# Altium integrated library TI Amplifiers and Linear PGA-VGA.IntLib: 149 symbols (part 1 of 8)
Pins are listed as number, name and electrical type; pins without a type are passive.

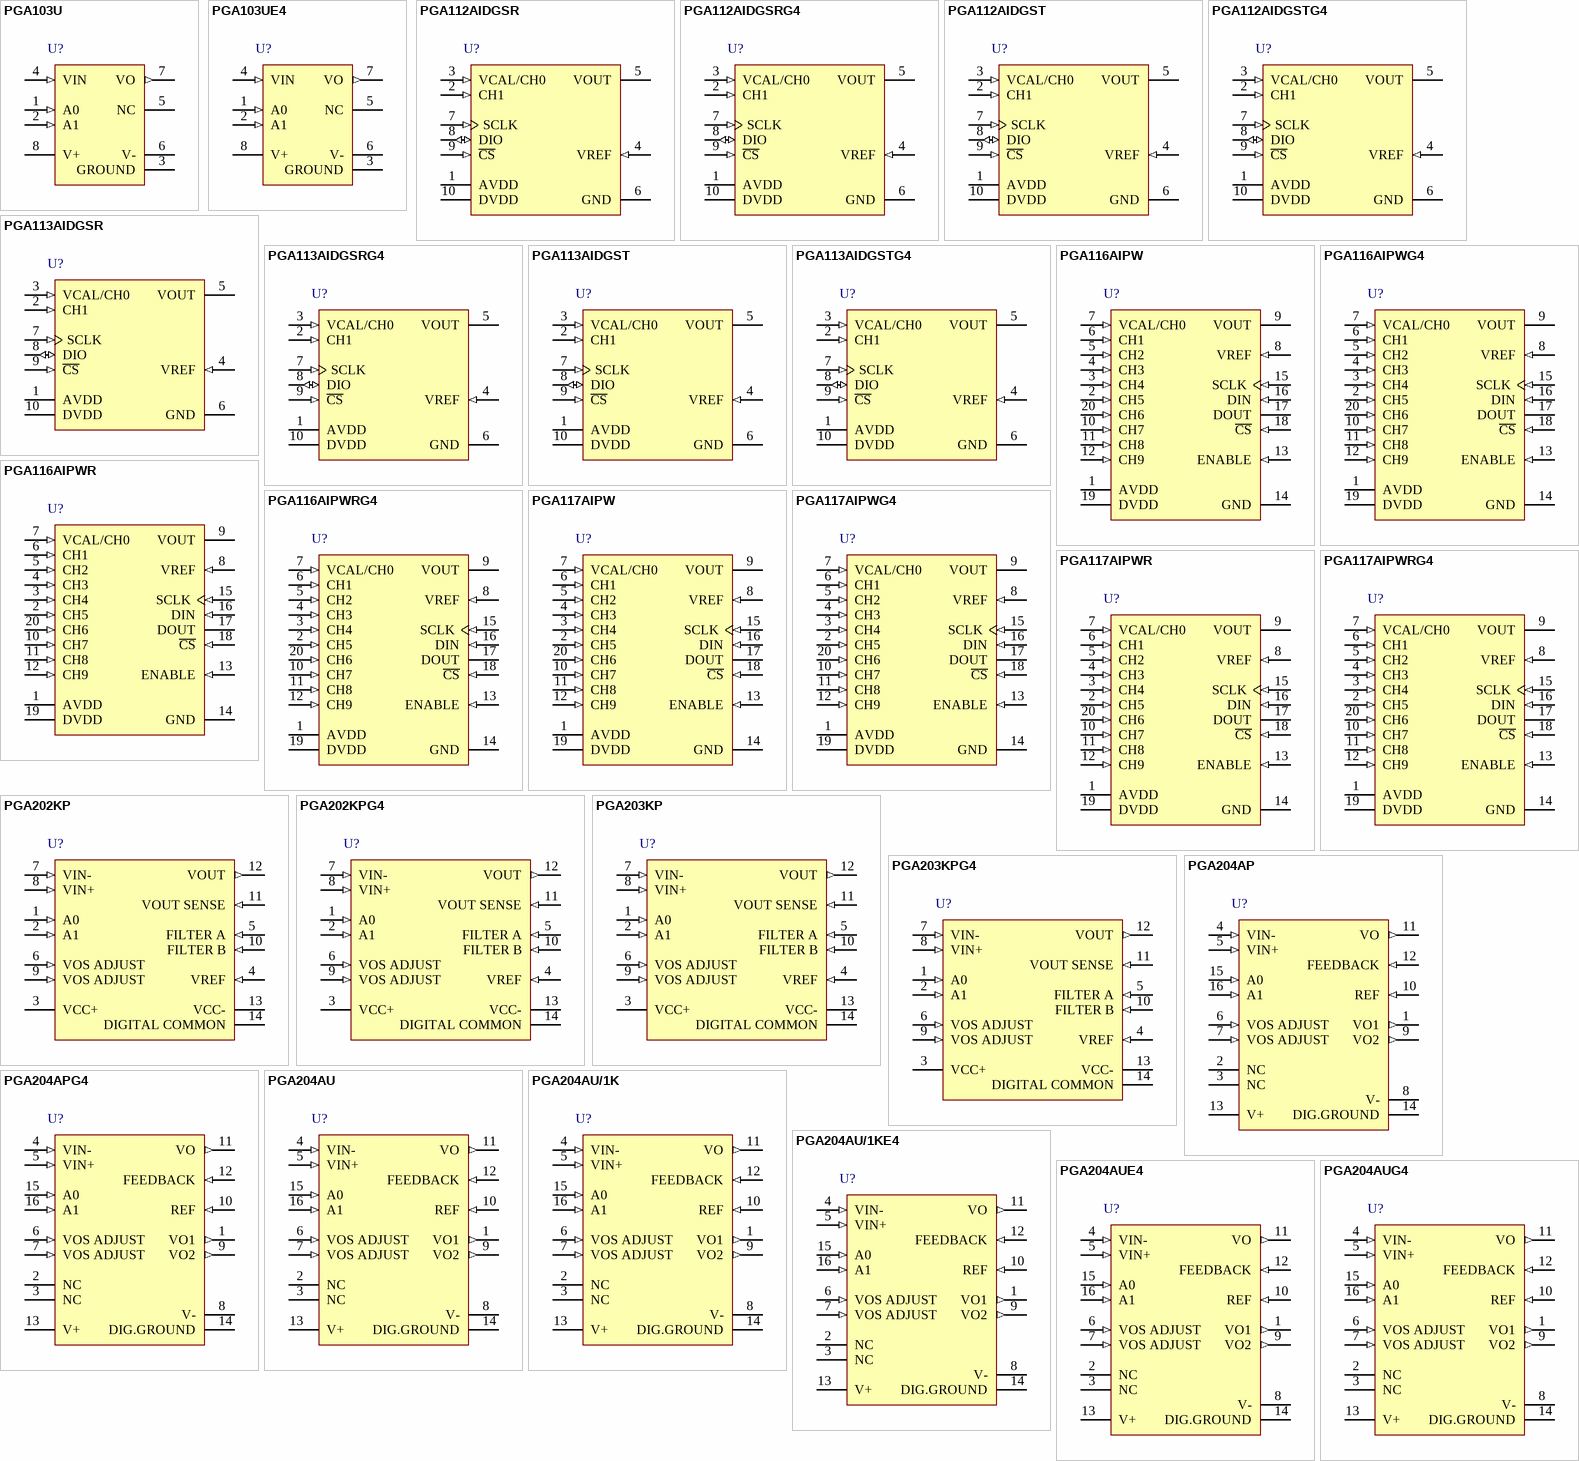
[diagram p0: symbols PGA103U to PGA204AUG4]

## PGA103U
designator U?
Programmable Gain Amplifier, -40 to 85 degC, 8-pin SOIC (D8), Green (RoHS & no Sb/Br); Manufacturer: Texas Instruments; PartNumber: PGA103U; Gain Error (+/-)(Max)(%): 0.2; Gain(V/V): 1, 10, 100; Input Bias Current (+/-)(Max)(nA): 150; Input Offset (+/-)(Max)(uV): 500; Noise at 1kHz(Typ)(nV/rt(Hz)): 11; Non-Linearity (+/-)(Max)(%): 0.01; Number of Channels: 1; Quiescent Current (+/-)(Typ)(mA): 2.6; Settling Time to 0.01%(Typ)(us): 8; Vs(Max)(V): 36; Vs(Min)(V): 9; DatasheetVersion: SBOS031; PackageVersion: 4040047-3/M, 06/2011; PackageReference: D8; PackageDescription: 8-Pin Plastic Small Outline, Body 4.9 x 3.9 mm, Pitch 1.27 mm; Supplier 1: Digi-Key; Supplier Part Number 1: PGA103U-ND; Supplier 2: Newark; Supplier Part Number 2: 80K6037; Supplier 3: Mouser; Supplier Part Number 3: 595-PGA103U; Eco-Plan: Green (RoHS & no Sb/Br); SubFamily: Programmable Gain Amplifier; Mounting Technology: Surface Mount; Code_JEDEC: MS-012; ComponentLink1Description: Manufacturer URL; ComponentLink1URL: http://www.ti.com/; ComponentLink2Description: Datasheet; ComponentLink2URL: http://www.ti.com/general/docs/lit/getliterature.tsp?genericPartNumber=PGA103&fileType=pdf; ComponentLink3Description: Package Specification; ComponentLink3URL: http://www.ti.com/litv/pdf/msoi002j
footprint TI-D8_N (SOIC, 8-Leads, Body 5x4mm, Pitch 1.27mm, IPC Medium Density)
footprint TI-D8_L (SOIC, 8-Leads, Body 5x4mm, Pitch 1.27mm, IPC High Density)
footprint TI-D8_M (SOIC, 8-Leads, Body 5x4mm, Pitch 1.27mm, IPC Low Density)
pins: 1 A0 (in), 2 A1 (in), 3 GROUND (power), 4 VIN (in), 5 NC, 6 V- (power), 7 VO (out), 8 V+ (power)

## PGA103UE4
designator U?
Programmable Gain Amplifier, -40 to 85 degC, 8-pin SOIC (D8), Green (RoHS & no Sb/Br); Manufacturer: Texas Instruments; PartNumber: PGA103UE4; Gain Error (+/-)(Max)(%): 0.2; Gain(V/V): 1, 10, 100; Input Bias Current (+/-)(Max)(nA): 150; Input Offset (+/-)(Max)(uV): 500; Noise at 1kHz(Typ)(nV/rt(Hz)): 11; Non-Linearity (+/-)(Max)(%): 0.01; Number of Channels: 1; Quiescent Current (+/-)(Typ)(mA): 2.6; Settling Time to 0.01%(Typ)(us): 8; Vs(Max)(V): 36; Vs(Min)(V): 9; DatasheetVersion: SBOS031; PackageVersion: 4040047-3/M, 06/2011; PackageReference: D8; PackageDescription: 8-Pin Plastic Small Outline, Body 4.9 x 3.9 mm, Pitch 1.27 mm; Supplier 1: Digi-Key; Supplier Part Number 1: PGA103UE4-ND; Supplier 2: Newark; Supplier Part Number 2: 28M6721; Supplier 3: Mouser; Supplier Part Number 3: 595-PGA103UE4; Eco-Plan: Green (RoHS & no Sb/Br); SubFamily: Programmable Gain Amplifier; Mounting Technology: Surface Mount; Code_JEDEC: MS-012; ComponentLink1Description: Manufacturer URL; ComponentLink1URL: http://www.ti.com/; ComponentLink2Description: Datasheet; ComponentLink2URL: http://www.ti.com/general/docs/lit/getliterature.tsp?genericPartNumber=PGA103&fileType=pdf; ComponentLink3Description: Package Specification; ComponentLink3URL: http://www.ti.com/litv/pdf/msoi002j
footprint TI-D8_N (SOIC, 8-Leads, Body 5x4mm, Pitch 1.27mm, IPC Medium Density)
footprint TI-D8_L (SOIC, 8-Leads, Body 5x4mm, Pitch 1.27mm, IPC High Density)
footprint TI-D8_M (SOIC, 8-Leads, Body 5x4mm, Pitch 1.27mm, IPC Low Density)
pins: 1 A0 (in), 2 A1 (in), 3 GROUND (power), 4 VIN (in), 5 NC, 6 V- (power), 7 VO (out), 8 V+ (power)

## PGA112AIDGSR
designator U?
Zero-Drift, Programmable Gain Amplifier with MUX, -40 to 125 degC, 10-pin SOP (DGS10), Green (RoHS & no Sb/Br); Manufacturer: Texas Instruments; PartNumber: PGA112AIDGSR; Gain Error (+/-)(Max)(%): 0.1; Gain(V/V): 1, 2, 4, 8, 16, 32, 64, 128; Input Bias Current (+/-)(Max)(nA): 5; Input Offset (+/-)(Max)(uV): 100; Input Offset Drift (+/-)(Max)(uV/Degrees Celsius): 1.2; Non-Linearity (+/-)(Max)(%): 0.0015; Number of Channels: 2; Quiescent Current (+/-)(Typ)(mA): 1.1; Settling Time to 0.01%(Typ)(us): 2.55; Slew Rate(Typ)(V/us): 3; Vs(Max)(V): 5.5; Vs(Min)(V): 2.2; DatasheetVersion: SBOS424B; PackageVersion: 4073272/C, 02/2004; PackageReference: DGS10; PackageDescription: 10-Pin Plastic Small Outline, Body 3 x 3 mm, Pitch 0.5 mm; Supplier 1: Digi-Key; Supplier Part Number 1: PGA112AIDGSR-ND; Supplier 2: Mouser; Supplier Part Number 2: 595-PGA112AIDGSR; Eco-Plan: Green (RoHS & no Sb/Br); SubFamily: Programmable Gain Amplifier; Mounting Technology: Surface Mount; Code_JEDEC: MO-153; ComponentLink1Description: Manufacturer URL; ComponentLink1URL: http://www.ti.com/; ComponentLink2Description: Datasheet; ComponentLink2URL: http://www.ti.com/general/docs/lit/getliterature.tsp?genericPartNumber=PGA112&fileType=pdf; ComponentLink3Description: Package Specification; ComponentLink3URL: http://www.ti.com/lit/ml/mpds035b/mpds035b.pdf
footprint TI-DGS10_N (SOP, 10-Leads, Body 3.1x3.1mm, Pitch 0.5mm, IPC Medium Density)
footprint TI-DGS10_L (SOP, 10-Leads, Body 3.1x3.1mm, Pitch 0.5mm, IPC High Density)
footprint TI-DGS10_M (SOP, 10-Leads, Body 3.1x3.1mm, Pitch 0.5mm, IPC Low Density)
pins: 1 AVDD (power) "Analog supply voltage (+2.2V to +5.5V)", 2 CH1 (in) "Input MUX channel 1", 3 VCAL/CH0 (in) "Input MUX channel 0 and VCAL input. For system calibration purposes, connect this pin to a low-impedance external reference voltage to use internal calibration channels. The four internal  calibration channels are connected (See Datasheet)", 4 VREF (in) "Reference input pin. Connect external reference for VOUT offset shift or to midsupply for midsupply referenced systems. VREF must be connected to a low-impedance reference capable of sourcing and sinking at least 2mA or VREF (See Datasheet)", 5 VOUT (hiz) "Analog voltage output. When AVDD < DVDD, VOUT is clamped to AVDD + 300mV.", 6 GND (power) "Ground pin", 7 SCLK (in) "Clock input for SPI serial interface", 8 DIO (io) "Data input/output for SPI serial interface. DIO contains a weak, 10uA internal pull-down current source.", 9 ~{CS} (in) "Chip select line for SPI serial interface", 10 DVDD (power) "Digital and op amp output stage supply voltage (+2.2V to +5.5V). Useful in multi-supply systems to prevent overvoltage/lockup condition on an analog-to-digital (ADC) input (for example, a microcontroller with an ADC running (See Datasheet)"

## PGA112AIDGSRG4
designator U?
Zero-Drift, Programmable Gain Amplifier with MUX, -40 to 125 degC, 10-pin SOP (DGS10), Green (RoHS & no Sb/Br); Manufacturer: Texas Instruments; PartNumber: PGA112AIDGSRG4; Gain Error (+/-)(Max)(%): 0.1; Gain(V/V): 1, 2, 4, 8, 16, 32, 64, 128; Input Bias Current (+/-)(Max)(nA): 5; Input Offset (+/-)(Max)(uV): 100; Input Offset Drift (+/-)(Max)(uV/Degrees Celsius): 1.2; Non-Linearity (+/-)(Max)(%): 0.0015; Number of Channels: 2; Quiescent Current (+/-)(Typ)(mA): 1.1; Settling Time to 0.01%(Typ)(us): 2.55; Slew Rate(Typ)(V/us): 3; Vs(Max)(V): 5.5; Vs(Min)(V): 2.2; DatasheetVersion: SBOS424B; PackageVersion: 4073272/C, 02/2004; PackageReference: DGS10; PackageDescription: 10-Pin Plastic Small Outline, Body 3 x 3 mm, Pitch 0.5 mm; Supplier 1: Digi-Key; Supplier Part Number 1: PGA112AIDGSRG4-ND; Supplier 2: Mouser; Supplier Part Number 2: 595-PGA112AIDGSRG4; Eco-Plan: Green (RoHS & no Sb/Br); SubFamily: Programmable Gain Amplifier; Mounting Technology: Surface Mount; Code_JEDEC: MO-153; ComponentLink1Description: Manufacturer URL; ComponentLink1URL: http://www.ti.com/; ComponentLink2Description: Datasheet; ComponentLink2URL: http://www.ti.com/general/docs/lit/getliterature.tsp?genericPartNumber=PGA112&fileType=pdf; ComponentLink3Description: Package Specification; ComponentLink3URL: http://www.ti.com/lit/ml/mpds035b/mpds035b.pdf
footprint TI-DGS10_N (SOP, 10-Leads, Body 3.1x3.1mm, Pitch 0.5mm, IPC Medium Density)
footprint TI-DGS10_L (SOP, 10-Leads, Body 3.1x3.1mm, Pitch 0.5mm, IPC High Density)
footprint TI-DGS10_M (SOP, 10-Leads, Body 3.1x3.1mm, Pitch 0.5mm, IPC Low Density)
pins: 1 AVDD (power) "Analog supply voltage (+2.2V to +5.5V)", 2 CH1 (in) "Input MUX channel 1", 3 VCAL/CH0 (in) "Input MUX channel 0 and VCAL input. For system calibration purposes, connect this pin to a low-impedance external reference voltage to use internal calibration channels. The four internal  calibration channels are connected (See Datasheet)", 4 VREF (in) "Reference input pin. Connect external reference for VOUT offset shift or to midsupply for midsupply referenced systems. VREF must be connected to a low-impedance reference capable of sourcing and sinking at least 2mA or VREF (See Datasheet)", 5 VOUT (hiz) "Analog voltage output. When AVDD < DVDD, VOUT is clamped to AVDD + 300mV.", 6 GND (power) "Ground pin", 7 SCLK (in) "Clock input for SPI serial interface", 8 DIO (io) "Data input/output for SPI serial interface. DIO contains a weak, 10uA internal pull-down current source.", 9 ~{CS} (in) "Chip select line for SPI serial interface", 10 DVDD (power) "Digital and op amp output stage supply voltage (+2.2V to +5.5V). Useful in multi-supply systems to prevent overvoltage/lockup condition on an analog-to-digital (ADC) input (for example, a microcontroller with an ADC running (See Datasheet)"

## PGA112AIDGST
designator U?
Zero-Drift, Programmable Gain Amplifier with MUX, -40 to 125 degC, 10-pin SOP (DGS10), Green (RoHS & no Sb/Br); Manufacturer: Texas Instruments; PartNumber: PGA112AIDGST; Gain Error (+/-)(Max)(%): 0.1; Gain(V/V): 1, 2, 4, 8, 16, 32, 64, 128; Input Bias Current (+/-)(Max)(nA): 5; Input Offset (+/-)(Max)(uV): 100; Input Offset Drift (+/-)(Max)(uV/Degrees Celsius): 1.2; Non-Linearity (+/-)(Max)(%): 0.0015; Number of Channels: 2; Quiescent Current (+/-)(Typ)(mA): 1.1; Settling Time to 0.01%(Typ)(us): 2.55; Slew Rate(Typ)(V/us): 3; Vs(Max)(V): 5.5; Vs(Min)(V): 2.2; DatasheetVersion: SBOS424B; PackageVersion: 4073272/C, 02/2004; PackageReference: DGS10; PackageDescription: 10-Pin Plastic Small Outline, Body 3 x 3 mm, Pitch 0.5 mm; Supplier 1: Digi-Key; Supplier Part Number 1: 296-23315-2-ND; Supplier 2: Digi-Key; Supplier Part Number 2: 296-23315-1-ND; Supplier 3: Digi-Key; Supplier Part Number 3: 296-23315-6-ND; Supplier 4: Farnell; Supplier Part Number 4: 1565875; Supplier 5: Newark; Supplier Part Number 5: 86W6076; Supplier 6: Newark; Supplier Part Number 6: 94M8671; Supplier 7: Mouser; Supplier Part Number 7: 595-PGA112AIDGST; Eco-Plan: Green (RoHS & no Sb/Br); SubFamily: Programmable Gain Amplifier; Mounting Technology: Surface Mount; Code_JEDEC: MO-153; ComponentLink1Description: Manufacturer URL; ComponentLink1URL: http://www.ti.com/; ComponentLink2Description: Datasheet; ComponentLink2URL: http://www.ti.com/general/docs/lit/getliterature.tsp?genericPartNumber=PGA112&fileType=pdf; ComponentLink3Description: Package Specification; ComponentLink3URL: http://www.ti.com/lit/ml/mpds035b/mpds035b.pdf
footprint TI-DGS10_N (SOP, 10-Leads, Body 3.1x3.1mm, Pitch 0.5mm, IPC Medium Density)
footprint TI-DGS10_L (SOP, 10-Leads, Body 3.1x3.1mm, Pitch 0.5mm, IPC High Density)
footprint TI-DGS10_M (SOP, 10-Leads, Body 3.1x3.1mm, Pitch 0.5mm, IPC Low Density)
pins: 1 AVDD (power) "Analog supply voltage (+2.2V to +5.5V)", 2 CH1 (in) "Input MUX channel 1", 3 VCAL/CH0 (in) "Input MUX channel 0 and VCAL input. For system calibration purposes, connect this pin to a low-impedance external reference voltage to use internal calibration channels. The four internal  calibration channels are connected (See Datasheet)", 4 VREF (in) "Reference input pin. Connect external reference for VOUT offset shift or to midsupply for midsupply referenced systems. VREF must be connected to a low-impedance reference capable of sourcing and sinking at least 2mA or VREF (See Datasheet)", 5 VOUT (hiz) "Analog voltage output. When AVDD < DVDD, VOUT is clamped to AVDD + 300mV.", 6 GND (power) "Ground pin", 7 SCLK (in) "Clock input for SPI serial interface", 8 DIO (io) "Data input/output for SPI serial interface. DIO contains a weak, 10uA internal pull-down current source.", 9 ~{CS} (in) "Chip select line for SPI serial interface", 10 DVDD (power) "Digital and op amp output stage supply voltage (+2.2V to +5.5V). Useful in multi-supply systems to prevent overvoltage/lockup condition on an analog-to-digital (ADC) input (for example, a microcontroller with an ADC running (See Datasheet)"

## PGA112AIDGSTG4
designator U?
Zero-Drift, Programmable Gain Amplifier with MUX, -40 to 125 degC, 10-pin SOP (DGS10), Green (RoHS & no Sb/Br); Manufacturer: Texas Instruments; PartNumber: PGA112AIDGSTG4; Gain Error (+/-)(Max)(%): 0.1; Gain(V/V): 1, 2, 4, 8, 16, 32, 64, 128; Input Bias Current (+/-)(Max)(nA): 5; Input Offset (+/-)(Max)(uV): 100; Input Offset Drift (+/-)(Max)(uV/Degrees Celsius): 1.2; Non-Linearity (+/-)(Max)(%): 0.0015; Number of Channels: 2; Quiescent Current (+/-)(Typ)(mA): 1.1; Settling Time to 0.01%(Typ)(us): 2.55; Slew Rate(Typ)(V/us): 3; Vs(Max)(V): 5.5; Vs(Min)(V): 2.2; DatasheetVersion: SBOS424B; PackageVersion: 4073272/C, 02/2004; PackageReference: DGS10; PackageDescription: 10-Pin Plastic Small Outline, Body 3 x 3 mm, Pitch 0.5 mm; Supplier 1: Digi-Key; Supplier Part Number 1: PGA112AIDGSTG4-ND; Supplier 2: Newark; Supplier Part Number 2: 03P4686; Supplier 3: Mouser; Supplier Part Number 3: 595-PGA112AIDGSTG4; Eco-Plan: Green (RoHS & no Sb/Br); SubFamily: Programmable Gain Amplifier; Mounting Technology: Surface Mount; Code_JEDEC: MO-153; ComponentLink1Description: Manufacturer URL; ComponentLink1URL: http://www.ti.com/; ComponentLink2Description: Datasheet; ComponentLink2URL: http://www.ti.com/general/docs/lit/getliterature.tsp?genericPartNumber=PGA112&fileType=pdf; ComponentLink3Description: Package Specification; ComponentLink3URL: http://www.ti.com/lit/ml/mpds035b/mpds035b.pdf
footprint TI-DGS10_N (SOP, 10-Leads, Body 3.1x3.1mm, Pitch 0.5mm, IPC Medium Density)
footprint TI-DGS10_L (SOP, 10-Leads, Body 3.1x3.1mm, Pitch 0.5mm, IPC High Density)
footprint TI-DGS10_M (SOP, 10-Leads, Body 3.1x3.1mm, Pitch 0.5mm, IPC Low Density)
pins: 1 AVDD (power) "Analog supply voltage (+2.2V to +5.5V)", 2 CH1 (in) "Input MUX channel 1", 3 VCAL/CH0 (in) "Input MUX channel 0 and VCAL input. For system calibration purposes, connect this pin to a low-impedance external reference voltage to use internal calibration channels. The four internal  calibration channels are connected (See Datasheet)", 4 VREF (in) "Reference input pin. Connect external reference for VOUT offset shift or to midsupply for midsupply referenced systems. VREF must be connected to a low-impedance reference capable of sourcing and sinking at least 2mA or VREF (See Datasheet)", 5 VOUT (hiz) "Analog voltage output. When AVDD < DVDD, VOUT is clamped to AVDD + 300mV.", 6 GND (power) "Ground pin", 7 SCLK (in) "Clock input for SPI serial interface", 8 DIO (io) "Data input/output for SPI serial interface. DIO contains a weak, 10uA internal pull-down current source.", 9 ~{CS} (in) "Chip select line for SPI serial interface", 10 DVDD (power) "Digital and op amp output stage supply voltage (+2.2V to +5.5V). Useful in multi-supply systems to prevent overvoltage/lockup condition on an analog-to-digital (ADC) input (for example, a microcontroller with an ADC running (See Datasheet)"

## PGA113AIDGSR
designator U?
Zero-Drift, Programmable Gain Amplifier with MUX, -40 to 125 degC, 10-pin SOP (DGS10), Green (RoHS & no Sb/Br); Manufacturer: Texas Instruments; PartNumber: PGA113AIDGSR; Common Mode Input High(Min)(V): AVdd -0.1V; Common Mode Input Low(Min)(V): GND + 0.1V; Gain Error (+/-)(Max)(%): 0.1; Gain(V/V): 1, 2, 5, 10, 20, 50, 100, 200; Input Bias Current (+/-)(Max)(nA): 5; Input Offset (+/-)(Max)(uV): 100; Input Offset Drift (+/-)(Max)(uV/Degrees Celsius): 1.2; Noise at 1kHz(Typ)(nV/rt(Hz)): 13; Non-Linearity (+/-)(Max)(%): 0.0015; Number of Channels: 2; Quiescent Current (+/-)(Typ)(mA): 1; Settling Time to 0.01%(Typ)(us): 2.55; Slew Rate(Typ)(V/us): 3; Vs(Max)(V): 5.5; Vs(Min)(V): 2.2; DatasheetVersion: SBOS424B; PackageVersion: 4073272/C, 02/2004; PackageReference: DGS10; PackageDescription: 10-Pin Plastic Small Outline, Body 3 x 3 mm, Pitch 0.5 mm; Supplier 1: Digi-Key; Supplier Part Number 1: 296-23527-2-ND; Supplier 2: Digi-Key; Supplier Part Number 2: 296-23527-1-ND; Supplier 3: Digi-Key; Supplier Part Number 3: 296-23527-6-ND; Supplier 4: Farnell; Supplier Part Number 4: 2352293; Supplier 5: Newark; Supplier Part Number 5: 89W0636; Supplier 6: Newark; Supplier Part Number 6: 03P4687; Supplier 7: Mouser; Supplier Part Number 7: 595-PGA113AIDGSR; Eco-Plan: Green (RoHS & no Sb/Br); SubFamily: Programmable Gain Amplifier; Mounting Technology: Surface Mount; Code_JEDEC: MO-153; ComponentLink1Description: Manufacturer URL; ComponentLink1URL: http://www.ti.com/; ComponentLink2Description: Datasheet; ComponentLink2URL: http://www.ti.com/general/docs/lit/getliterature.tsp?genericPartNumber=PGA113&fileType=pdf; ComponentLink3Description: Package Specification; ComponentLink3URL: http://www.ti.com/lit/ml/mpds035b/mpds035b.pdf
footprint TI-DGS10_N (SOP, 10-Leads, Body 3.1x3.1mm, Pitch 0.5mm, IPC Medium Density)
footprint TI-DGS10_L (SOP, 10-Leads, Body 3.1x3.1mm, Pitch 0.5mm, IPC High Density)
footprint TI-DGS10_M (SOP, 10-Leads, Body 3.1x3.1mm, Pitch 0.5mm, IPC Low Density)
pins: 1 AVDD (power) "Analog supply voltage (+2.2V to +5.5V)", 2 CH1 (in) "Input MUX channel 1", 3 VCAL/CH0 (in) "Input MUX channel 0 and VCAL input. For system calibration purposes, connect this pin to a low-impedance external reference voltage to use internal calibration channels. The four internal  calibration channels are connected (See Datasheet)", 4 VREF (in) "Reference input pin. Connect external reference for VOUT offset shift or to midsupply for midsupply referenced systems. VREF must be connected to a low-impedance reference capable of sourcing and sinking at least 2mA or VREF (See Datasheet)", 5 VOUT (hiz) "Analog voltage output. When AVDD < DVDD, VOUT is clamped to AVDD + 300mV.", 6 GND (power) "Ground pin", 7 SCLK (in) "Clock input for SPI serial interface", 8 DIO (io) "Data input/output for SPI serial interface. DIO contains a weak, 10uA internal pull-down current source.", 9 ~{CS} (in) "Chip select line for SPI serial interface", 10 DVDD (power) "Digital and op amp output stage supply voltage (+2.2V to +5.5V). Useful in multi-supply systems to prevent overvoltage/lockup condition on an analog-to-digital (ADC) input (for example, a microcontroller with an ADC running (See Datasheet)"

## PGA113AIDGSRG4
designator U?
Zero-Drift, Programmable Gain Amplifier with MUX, -40 to 125 degC, 10-pin SOP (DGS10), Green (RoHS & no Sb/Br); Manufacturer: Texas Instruments; PartNumber: PGA113AIDGSRG4; Common Mode Input High(Min)(V): AVdd -0.1V; Common Mode Input Low(Min)(V): GND + 0.1V; Gain Error (+/-)(Max)(%): 0.1; Gain(V/V): 1, 2, 5, 10, 20, 50, 100, 200; Input Bias Current (+/-)(Max)(nA): 5; Input Offset (+/-)(Max)(uV): 100; Input Offset Drift (+/-)(Max)(uV/Degrees Celsius): 1.2; Noise at 1kHz(Typ)(nV/rt(Hz)): 13; Non-Linearity (+/-)(Max)(%): 0.0015; Number of Channels: 2; Quiescent Current (+/-)(Typ)(mA): 1; Settling Time to 0.01%(Typ)(us): 2.55; Slew Rate(Typ)(V/us): 3; Vs(Max)(V): 5.5; Vs(Min)(V): 2.2; DatasheetVersion: SBOS424B; PackageVersion: 4073272/C, 02/2004; PackageReference: DGS10; PackageDescription: 10-Pin Plastic Small Outline, Body 3 x 3 mm, Pitch 0.5 mm; Supplier 1: Digi-Key; Supplier Part Number 1: PGA113AIDGSRG4-ND; Supplier 2: Mouser; Supplier Part Number 2: 595-PGA113AIDGSRG4; Eco-Plan: Green (RoHS & no Sb/Br); SubFamily: Programmable Gain Amplifier; Mounting Technology: Surface Mount; Code_JEDEC: MO-153; ComponentLink1Description: Manufacturer URL; ComponentLink1URL: http://www.ti.com/; ComponentLink2Description: Datasheet; ComponentLink2URL: http://www.ti.com/general/docs/lit/getliterature.tsp?genericPartNumber=PGA113&fileType=pdf; ComponentLink3Description: Package Specification; ComponentLink3URL: http://www.ti.com/lit/ml/mpds035b/mpds035b.pdf
footprint TI-DGS10_N (SOP, 10-Leads, Body 3.1x3.1mm, Pitch 0.5mm, IPC Medium Density)
footprint TI-DGS10_L (SOP, 10-Leads, Body 3.1x3.1mm, Pitch 0.5mm, IPC High Density)
footprint TI-DGS10_M (SOP, 10-Leads, Body 3.1x3.1mm, Pitch 0.5mm, IPC Low Density)
pins: 1 AVDD (power) "Analog supply voltage (+2.2V to +5.5V)", 2 CH1 (in) "Input MUX channel 1", 3 VCAL/CH0 (in) "Input MUX channel 0 and VCAL input. For system calibration purposes, connect this pin to a low-impedance external reference voltage to use internal calibration channels. The four internal  calibration channels are connected (See Datasheet)", 4 VREF (in) "Reference input pin. Connect external reference for VOUT offset shift or to midsupply for midsupply referenced systems. VREF must be connected to a low-impedance reference capable of sourcing and sinking at least 2mA or VREF (See Datasheet)", 5 VOUT (hiz) "Analog voltage output. When AVDD < DVDD, VOUT is clamped to AVDD + 300mV.", 6 GND (power) "Ground pin", 7 SCLK (in) "Clock input for SPI serial interface", 8 DIO (io) "Data input/output for SPI serial interface. DIO contains a weak, 10uA internal pull-down current source.", 9 ~{CS} (in) "Chip select line for SPI serial interface", 10 DVDD (power) "Digital and op amp output stage supply voltage (+2.2V to +5.5V). Useful in multi-supply systems to prevent overvoltage/lockup condition on an analog-to-digital (ADC) input (for example, a microcontroller with an ADC running (See Datasheet)"

## PGA113AIDGST
designator U?
Zero-Drift, Programmable Gain Amplifier with MUX, -40 to 125 degC, 10-pin SOP (DGS10), Green (RoHS & no Sb/Br); Manufacturer: Texas Instruments; PartNumber: PGA113AIDGST; Common Mode Input High(Min)(V): AVdd -0.1V; Common Mode Input Low(Min)(V): GND + 0.1V; Gain Error (+/-)(Max)(%): 0.1; Gain(V/V): 1, 2, 5, 10, 20, 50, 100, 200; Input Bias Current (+/-)(Max)(nA): 5; Input Offset (+/-)(Max)(uV): 100; Input Offset Drift (+/-)(Max)(uV/Degrees Celsius): 1.2; Noise at 1kHz(Typ)(nV/rt(Hz)): 13; Non-Linearity (+/-)(Max)(%): 0.0015; Number of Channels: 2; Quiescent Current (+/-)(Typ)(mA): 1; Settling Time to 0.01%(Typ)(us): 2.55; Slew Rate(Typ)(V/us): 3; Vs(Max)(V): 5.5; Vs(Min)(V): 2.2; DatasheetVersion: SBOS424B; PackageVersion: 4073272/C, 02/2004; PackageReference: DGS10; PackageDescription: 10-Pin Plastic Small Outline, Body 3 x 3 mm, Pitch 0.5 mm; Supplier 1: Digi-Key; Supplier Part Number 1: 296-32204-2-ND; Supplier 2: Digi-Key; Supplier Part Number 2: 296-32204-1-ND; Supplier 3: Digi-Key; Supplier Part Number 3: 296-32204-6-ND; Supplier 4: Farnell; Supplier Part Number 4: 1755004; Supplier 5: Newark; Supplier Part Number 5: 15N0085; Supplier 6: Mouser; Supplier Part Number 6: 595-PGA113AIDGST; Eco-Plan: Green (RoHS & no Sb/Br); SubFamily: Programmable Gain Amplifier; Mounting Technology: Surface Mount; Code_JEDEC: MO-153; ComponentLink1Description: Manufacturer URL; ComponentLink1URL: http://www.ti.com/; ComponentLink2Description: Datasheet; ComponentLink2URL: http://www.ti.com/general/docs/lit/getliterature.tsp?genericPartNumber=PGA113&fileType=pdf; ComponentLink3Description: Package Specification; ComponentLink3URL: http://www.ti.com/lit/ml/mpds035b/mpds035b.pdf
footprint TI-DGS10_N (SOP, 10-Leads, Body 3.1x3.1mm, Pitch 0.5mm, IPC Medium Density)
footprint TI-DGS10_L (SOP, 10-Leads, Body 3.1x3.1mm, Pitch 0.5mm, IPC High Density)
footprint TI-DGS10_M (SOP, 10-Leads, Body 3.1x3.1mm, Pitch 0.5mm, IPC Low Density)
pins: 1 AVDD (power) "Analog supply voltage (+2.2V to +5.5V)", 2 CH1 (in) "Input MUX channel 1", 3 VCAL/CH0 (in) "Input MUX channel 0 and VCAL input. For system calibration purposes, connect this pin to a low-impedance external reference voltage to use internal calibration channels. The four internal  calibration channels are connected (See Datasheet)", 4 VREF (in) "Reference input pin. Connect external reference for VOUT offset shift or to midsupply for midsupply referenced systems. VREF must be connected to a low-impedance reference capable of sourcing and sinking at least 2mA or VREF (See Datasheet)", 5 VOUT (hiz) "Analog voltage output. When AVDD < DVDD, VOUT is clamped to AVDD + 300mV.", 6 GND (power) "Ground pin", 7 SCLK (in) "Clock input for SPI serial interface", 8 DIO (io) "Data input/output for SPI serial interface. DIO contains a weak, 10uA internal pull-down current source.", 9 ~{CS} (in) "Chip select line for SPI serial interface", 10 DVDD (power) "Digital and op amp output stage supply voltage (+2.2V to +5.5V). Useful in multi-supply systems to prevent overvoltage/lockup condition on an analog-to-digital (ADC) input (for example, a microcontroller with an ADC running (See Datasheet)"

## PGA113AIDGSTG4
designator U?
Zero-Drift, Programmable Gain Amplifier with MUX, -40 to 125 degC, 10-pin SOP (DGS10), Green (RoHS & no Sb/Br); Manufacturer: Texas Instruments; PartNumber: PGA113AIDGSTG4; Common Mode Input High(Min)(V): AVdd -0.1V; Common Mode Input Low(Min)(V): GND + 0.1V; Gain Error (+/-)(Max)(%): 0.1; Gain(V/V): 1, 2, 5, 10, 20, 50, 100, 200; Input Bias Current (+/-)(Max)(nA): 5; Input Offset (+/-)(Max)(uV): 100; Input Offset Drift (+/-)(Max)(uV/Degrees Celsius): 1.2; Noise at 1kHz(Typ)(nV/rt(Hz)): 13; Non-Linearity (+/-)(Max)(%): 0.0015; Number of Channels: 2; Quiescent Current (+/-)(Typ)(mA): 1; Settling Time to 0.01%(Typ)(us): 2.55; Slew Rate(Typ)(V/us): 3; Vs(Max)(V): 5.5; Vs(Min)(V): 2.2; DatasheetVersion: SBOS424B; PackageVersion: 4073272/C, 02/2004; PackageReference: DGS10; PackageDescription: 10-Pin Plastic Small Outline, Body 3 x 3 mm, Pitch 0.5 mm; Supplier 1: Digi-Key; Supplier Part Number 1: PGA113AIDGSTG4-ND; Supplier 2: Mouser; Supplier Part Number 2: 595-PGA113AIDGSTG4; Eco-Plan: Green (RoHS & no Sb/Br); SubFamily: Programmable Gain Amplifier; Mounting Technology: Surface Mount; Code_JEDEC: MO-153; ComponentLink1Description: Manufacturer URL; ComponentLink1URL: http://www.ti.com/; ComponentLink2Description: Datasheet; ComponentLink2URL: http://www.ti.com/general/docs/lit/getliterature.tsp?genericPartNumber=PGA113&fileType=pdf; ComponentLink3Description: Package Specification; ComponentLink3URL: http://www.ti.com/lit/ml/mpds035b/mpds035b.pdf
footprint TI-DGS10_N (SOP, 10-Leads, Body 3.1x3.1mm, Pitch 0.5mm, IPC Medium Density)
footprint TI-DGS10_L (SOP, 10-Leads, Body 3.1x3.1mm, Pitch 0.5mm, IPC High Density)
footprint TI-DGS10_M (SOP, 10-Leads, Body 3.1x3.1mm, Pitch 0.5mm, IPC Low Density)
pins: 1 AVDD (power) "Analog supply voltage (+2.2V to +5.5V)", 2 CH1 (in) "Input MUX channel 1", 3 VCAL/CH0 (in) "Input MUX channel 0 and VCAL input. For system calibration purposes, connect this pin to a low-impedance external reference voltage to use internal calibration channels. The four internal  calibration channels are connected (See Datasheet)", 4 VREF (in) "Reference input pin. Connect external reference for VOUT offset shift or to midsupply for midsupply referenced systems. VREF must be connected to a low-impedance reference capable of sourcing and sinking at least 2mA or VREF (See Datasheet)", 5 VOUT (hiz) "Analog voltage output. When AVDD < DVDD, VOUT is clamped to AVDD + 300mV.", 6 GND (power) "Ground pin", 7 SCLK (in) "Clock input for SPI serial interface", 8 DIO (io) "Data input/output for SPI serial interface. DIO contains a weak, 10uA internal pull-down current source.", 9 ~{CS} (in) "Chip select line for SPI serial interface", 10 DVDD (power) "Digital and op amp output stage supply voltage (+2.2V to +5.5V). Useful in multi-supply systems to prevent overvoltage/lockup condition on an analog-to-digital (ADC) input (for example, a microcontroller with an ADC running (See Datasheet)"

## PGA116AIPW
designator U?
Zero-Drift, Programmable Gain Amplifier with MUX, -40 to 125 degC, 20-pin SOP (PW20), Green (RoHS & no Sb/Br); Manufacturer: Texas Instruments; PartNumber: PGA116AIPW; Gain Error (+/-)(Max)(%): 0.1; Gain(V/V): 1, 2, 4, 8, 16, 32, 64, 128; Input Bias Current (+/-)(Max)(nA): 5; Input Offset (+/-)(Max)(uV): 100; Input Offset Drift (+/-)(Max)(uV/Degrees Celsius): 1.2; Non-Linearity (+/-)(Max)(%): 0.0015; Number of Channels: 10; Quiescent Current (+/-)(Typ)(mA): 1.1; Settling Time to 0.01%(Typ)(us): 2.55; Slew Rate(Typ)(V/us): 3; Vs(Max)(V): 5.5; Vs(Min)(V): 2.2; DatasheetVersion: SBOS424B; PackageVersion: 4040064-5/G, 02/2011; PackageReference: PW20; PackageDescription: 20-Pin Plastic Small Outline, Body 6.5 x 4.4 mm, Pitch 0.65 mm; Supplier 1: Digi-Key; Supplier Part Number 1: 296-33535-5-ND; Supplier 2: Farnell; Supplier Part Number 2: 1684750; Supplier 3: Newark; Supplier Part Number 3: 40P0739; Supplier 4: Mouser; Supplier Part Number 4: 595-PGA116AIPW; Eco-Plan: Green (RoHS & no Sb/Br); SubFamily: Programmable Gain Amplifier; Mounting Technology: Surface Mount; Code_JEDEC: MO-153; ComponentLink1Description: Manufacturer URL; ComponentLink1URL: http://www.ti.com/; ComponentLink2Description: Datasheet; ComponentLink2URL: http://www.ti.com/general/docs/lit/getliterature.tsp?genericPartNumber=PGA116&fileType=pdf; ComponentLink3Description: Package Specification; ComponentLink3URL: http://www.ti.com.cn/cn/lit/ml/mpds362/mpds362.pdf
footprint TI-PW20_N (SOP, 20-Leads, Body 6.6x4.5mm, Pitch 0.65mm, IPC Medium Density)
footprint TI-PW20_L (SOP, 20-Leads, Body 6.6x4.5mm, Pitch 0.65mm, IPC High Density)
footprint TI-PW20_M (SOP, 20-Leads, Body 6.6x4.5mm, Pitch 0.65mm, IPC Low Density)
pins: 1 AVDD (power) "Analog supply voltage (+2.2V to +5.5V)", 2 CH5 (in) "Input MUX channel 5", 3 CH4 (in) "Input MUX channel 4", 4 CH3 (in) "Input MUX channel 3", 5 CH2 (in) "Input MUX channel 2", 6 CH1 (in) "Input MUX channel 1", 7 VCAL/CH0 (in) "Input MUX channel 0 and VCAL input. For system calibration purposes, connect this pin to a low-impedance external reference voltage to use internal calibration channels. The four internal calibration channels are connected (See Datasheet)", 8 VREF (in) "Reference input pin. Connect external reference for VOUT offset shift or to midsupply for midsupply referenced systems. VREF must be connected to a low-impedance reference capable of sourcing and sinking at least 2mA or to (See Datasheet)", 9 VOUT (hiz) "Analog voltage output. When AVDD < DVDD, VOUT is clamped to AVDD + 300mV.", 10 CH7 (in) "Input MUX channel 7", 11 CH8 (in) "Input MUX channel 8", 12 CH9 (in) "Input MUX channel 9", 13 ENABLE (in) "Hardware enable pin. Logic low puts the part into Shutdown mode (IQ < 1uA).", 14 GND (power) "Ground pin", 15 SCLK (in) "Clock input for SPI serial interface", 16 DIN (in) "Data input for SPI serial interface. DIN contains a weak, 10uA internal pull-down current source to allow for ease of daisy-chain configurations.", 17 DOUT (hiz) "Data output for SPI serial interface. DOUT goes to high-Z state when C\S\ goes high for standard SPI interface.", 18 ~{CS} (in) "Chip select line for SPI serial interface", 19 DVDD (power) "Digital and op amp output stage supply voltage (+2.2V to +5.5V). Useful in multi-supply systems to prevent overvoltage/lockup condition on an ADC input (for example, a microcontroller with an ADC running on +3V and the PGA (See Datasheet)", 20 CH6 (in) "Input MUX channel 6"

## PGA116AIPWG4
designator U?
Zero-Drift, Programmable Gain Amplifier with MUX, -40 to 125 degC, 20-pin SOP (PW20), Green (RoHS & no Sb/Br); Manufacturer: Texas Instruments; PartNumber: PGA116AIPWG4; Gain Error (+/-)(Max)(%): 0.1; Gain(V/V): 1, 2, 4, 8, 16, 32, 64, 128; Input Bias Current (+/-)(Max)(nA): 5; Input Offset (+/-)(Max)(uV): 100; Input Offset Drift (+/-)(Max)(uV/Degrees Celsius): 1.2; Non-Linearity (+/-)(Max)(%): 0.0015; Number of Channels: 10; Quiescent Current (+/-)(Typ)(mA): 1.1; Settling Time to 0.01%(Typ)(us): 2.55; Slew Rate(Typ)(V/us): 3; Vs(Max)(V): 5.5; Vs(Min)(V): 2.2; DatasheetVersion: SBOS424B; PackageVersion: 4040064-5/G, 02/2011; PackageReference: PW20; PackageDescription: 20-Pin Plastic Small Outline, Body 6.5 x 4.4 mm, Pitch 0.65 mm; Supplier 1: Digi-Key; Supplier Part Number 1: PGA116AIPWG4-ND; Supplier 2: Mouser; Supplier Part Number 2: 595-PGA116AIPWG4; Eco-Plan: Green (RoHS & no Sb/Br); SubFamily: Programmable Gain Amplifier; Mounting Technology: Surface Mount; Code_JEDEC: MO-153; ComponentLink1Description: Manufacturer URL; ComponentLink1URL: http://www.ti.com/; ComponentLink2Description: Datasheet; ComponentLink2URL: http://www.ti.com/general/docs/lit/getliterature.tsp?genericPartNumber=PGA116&fileType=pdf; ComponentLink3Description: Package Specification; ComponentLink3URL: http://www.ti.com.cn/cn/lit/ml/mpds362/mpds362.pdf
footprint TI-PW20_N (SOP, 20-Leads, Body 6.6x4.5mm, Pitch 0.65mm, IPC Medium Density)
footprint TI-PW20_L (SOP, 20-Leads, Body 6.6x4.5mm, Pitch 0.65mm, IPC High Density)
footprint TI-PW20_M (SOP, 20-Leads, Body 6.6x4.5mm, Pitch 0.65mm, IPC Low Density)
pins: 1 AVDD (power) "Analog supply voltage (+2.2V to +5.5V)", 2 CH5 (in) "Input MUX channel 5", 3 CH4 (in) "Input MUX channel 4", 4 CH3 (in) "Input MUX channel 3", 5 CH2 (in) "Input MUX channel 2", 6 CH1 (in) "Input MUX channel 1", 7 VCAL/CH0 (in) "Input MUX channel 0 and VCAL input. For system calibration purposes, connect this pin to a low-impedance external reference voltage to use internal calibration channels. The four internal calibration channels are connected (See Datasheet)", 8 VREF (in) "Reference input pin. Connect external reference for VOUT offset shift or to midsupply for midsupply referenced systems. VREF must be connected to a low-impedance reference capable of sourcing and sinking at least 2mA or to (See Datasheet)", 9 VOUT (hiz) "Analog voltage output. When AVDD < DVDD, VOUT is clamped to AVDD + 300mV.", 10 CH7 (in) "Input MUX channel 7", 11 CH8 (in) "Input MUX channel 8", 12 CH9 (in) "Input MUX channel 9", 13 ENABLE (in) "Hardware enable pin. Logic low puts the part into Shutdown mode (IQ < 1uA).", 14 GND (power) "Ground pin", 15 SCLK (in) "Clock input for SPI serial interface", 16 DIN (in) "Data input for SPI serial interface. DIN contains a weak, 10uA internal pull-down current source to allow for ease of daisy-chain configurations.", 17 DOUT (hiz) "Data output for SPI serial interface. DOUT goes to high-Z state when C\S\ goes high for standard SPI interface.", 18 ~{CS} (in) "Chip select line for SPI serial interface", 19 DVDD (power) "Digital and op amp output stage supply voltage (+2.2V to +5.5V). Useful in multi-supply systems to prevent overvoltage/lockup condition on an ADC input (for example, a microcontroller with an ADC running on +3V and the PGA (See Datasheet)", 20 CH6 (in) "Input MUX channel 6"

## PGA116AIPWR
designator U?
Zero-Drift, Programmable Gain Amplifier with MUX, -40 to 125 degC, 20-pin SOP (PW20), Green (RoHS & no Sb/Br); Manufacturer: Texas Instruments; PartNumber: PGA116AIPWR; Gain Error (+/-)(Max)(%): 0.1; Gain(V/V): 1, 2, 4, 8, 16, 32, 64, 128; Input Bias Current (+/-)(Max)(nA): 5; Input Offset (+/-)(Max)(uV): 100; Input Offset Drift (+/-)(Max)(uV/Degrees Celsius): 1.2; Non-Linearity (+/-)(Max)(%): 0.0015; Number of Channels: 10; Quiescent Current (+/-)(Typ)(mA): 1.1; Settling Time to 0.01%(Typ)(us): 2.55; Slew Rate(Typ)(V/us): 3; Vs(Max)(V): 5.5; Vs(Min)(V): 2.2; DatasheetVersion: SBOS424B; PackageVersion: 4040064-5/G, 02/2011; PackageReference: PW20; PackageDescription: 20-Pin Plastic Small Outline, Body 6.5 x 4.4 mm, Pitch 0.65 mm; Supplier 1: Digi-Key; Supplier Part Number 1: 296-23772-2-ND; Supplier 2: Digi-Key; Supplier Part Number 2: 296-23772-1-ND; Supplier 3: Digi-Key; Supplier Part Number 3: 296-23772-6-ND; Supplier 4: Newark; Supplier Part Number 4: 09P8515; Supplier 5: Mouser; Supplier Part Number 5: 595-PGA116AIPWR; Eco-Plan: Green (RoHS & no Sb/Br); SubFamily: Programmable Gain Amplifier; Mounting Technology: Surface Mount; Code_JEDEC: MO-153; ComponentLink1Description: Manufacturer URL; ComponentLink1URL: http://www.ti.com/; ComponentLink2Description: Datasheet; ComponentLink2URL: http://www.ti.com/general/docs/lit/getliterature.tsp?genericPartNumber=PGA116&fileType=pdf; ComponentLink3Description: Package Specification; ComponentLink3URL: http://www.ti.com.cn/cn/lit/ml/mpds362/mpds362.pdf
footprint TI-PW20_N (SOP, 20-Leads, Body 6.6x4.5mm, Pitch 0.65mm, IPC Medium Density)
footprint TI-PW20_L (SOP, 20-Leads, Body 6.6x4.5mm, Pitch 0.65mm, IPC High Density)
footprint TI-PW20_M (SOP, 20-Leads, Body 6.6x4.5mm, Pitch 0.65mm, IPC Low Density)
pins: 1 AVDD (power) "Analog supply voltage (+2.2V to +5.5V)", 2 CH5 (in) "Input MUX channel 5", 3 CH4 (in) "Input MUX channel 4", 4 CH3 (in) "Input MUX channel 3", 5 CH2 (in) "Input MUX channel 2", 6 CH1 (in) "Input MUX channel 1", 7 VCAL/CH0 (in) "Input MUX channel 0 and VCAL input. For system calibration purposes, connect this pin to a low-impedance external reference voltage to use internal calibration channels. The four internal calibration channels are connected (See Datasheet)", 8 VREF (in) "Reference input pin. Connect external reference for VOUT offset shift or to midsupply for midsupply referenced systems. VREF must be connected to a low-impedance reference capable of sourcing and sinking at least 2mA or to (See Datasheet)", 9 VOUT (hiz) "Analog voltage output. When AVDD < DVDD, VOUT is clamped to AVDD + 300mV.", 10 CH7 (in) "Input MUX channel 7", 11 CH8 (in) "Input MUX channel 8", 12 CH9 (in) "Input MUX channel 9", 13 ENABLE (in) "Hardware enable pin. Logic low puts the part into Shutdown mode (IQ < 1uA).", 14 GND (power) "Ground pin", 15 SCLK (in) "Clock input for SPI serial interface", 16 DIN (in) "Data input for SPI serial interface. DIN contains a weak, 10uA internal pull-down current source to allow for ease of daisy-chain configurations.", 17 DOUT (hiz) "Data output for SPI serial interface. DOUT goes to high-Z state when C\S\ goes high for standard SPI interface.", 18 ~{CS} (in) "Chip select line for SPI serial interface", 19 DVDD (power) "Digital and op amp output stage supply voltage (+2.2V to +5.5V). Useful in multi-supply systems to prevent overvoltage/lockup condition on an ADC input (for example, a microcontroller with an ADC running on +3V and the PGA (See Datasheet)", 20 CH6 (in) "Input MUX channel 6"

## PGA116AIPWRG4
designator U?
Zero-Drift, Programmable Gain Amplifier with MUX, -40 to 125 degC, 20-pin SOP (PW20), Green (RoHS & no Sb/Br); Manufacturer: Texas Instruments; PartNumber: PGA116AIPWRG4; Gain Error (+/-)(Max)(%): 0.1; Gain(V/V): 1, 2, 4, 8, 16, 32, 64, 128; Input Bias Current (+/-)(Max)(nA): 5; Input Offset (+/-)(Max)(uV): 100; Input Offset Drift (+/-)(Max)(uV/Degrees Celsius): 1.2; Non-Linearity (+/-)(Max)(%): 0.0015; Number of Channels: 10; Quiescent Current (+/-)(Typ)(mA): 1.1; Settling Time to 0.01%(Typ)(us): 2.55; Slew Rate(Typ)(V/us): 3; Vs(Max)(V): 5.5; Vs(Min)(V): 2.2; DatasheetVersion: SBOS424B; PackageVersion: 4040064-5/G, 02/2011; PackageReference: PW20; PackageDescription: 20-Pin Plastic Small Outline, Body 6.5 x 4.4 mm, Pitch 0.65 mm; Supplier 1: Digi-Key; Supplier Part Number 1: PGA116AIPWRG4-ND; Supplier 2: Mouser; Supplier Part Number 2: 595-PGA116AIPWRG4; Eco-Plan: Green (RoHS & no Sb/Br); SubFamily: Programmable Gain Amplifier; Mounting Technology: Surface Mount; Code_JEDEC: MO-153; ComponentLink1Description: Manufacturer URL; ComponentLink1URL: http://www.ti.com/; ComponentLink2Description: Datasheet; ComponentLink2URL: http://www.ti.com/general/docs/lit/getliterature.tsp?genericPartNumber=PGA116&fileType=pdf; ComponentLink3Description: Package Specification; ComponentLink3URL: http://www.ti.com.cn/cn/lit/ml/mpds362/mpds362.pdf
footprint TI-PW20_N (SOP, 20-Leads, Body 6.6x4.5mm, Pitch 0.65mm, IPC Medium Density)
footprint TI-PW20_L (SOP, 20-Leads, Body 6.6x4.5mm, Pitch 0.65mm, IPC High Density)
footprint TI-PW20_M (SOP, 20-Leads, Body 6.6x4.5mm, Pitch 0.65mm, IPC Low Density)
pins: 1 AVDD (power) "Analog supply voltage (+2.2V to +5.5V)", 2 CH5 (in) "Input MUX channel 5", 3 CH4 (in) "Input MUX channel 4", 4 CH3 (in) "Input MUX channel 3", 5 CH2 (in) "Input MUX channel 2", 6 CH1 (in) "Input MUX channel 1", 7 VCAL/CH0 (in) "Input MUX channel 0 and VCAL input. For system calibration purposes, connect this pin to a low-impedance external reference voltage to use internal calibration channels. The four internal calibration channels are connected (See Datasheet)", 8 VREF (in) "Reference input pin. Connect external reference for VOUT offset shift or to midsupply for midsupply referenced systems. VREF must be connected to a low-impedance reference capable of sourcing and sinking at least 2mA or to (See Datasheet)", 9 VOUT (hiz) "Analog voltage output. When AVDD < DVDD, VOUT is clamped to AVDD + 300mV.", 10 CH7 (in) "Input MUX channel 7", 11 CH8 (in) "Input MUX channel 8", 12 CH9 (in) "Input MUX channel 9", 13 ENABLE (in) "Hardware enable pin. Logic low puts the part into Shutdown mode (IQ < 1uA).", 14 GND (power) "Ground pin", 15 SCLK (in) "Clock input for SPI serial interface", 16 DIN (in) "Data input for SPI serial interface. DIN contains a weak, 10uA internal pull-down current source to allow for ease of daisy-chain configurations.", 17 DOUT (hiz) "Data output for SPI serial interface. DOUT goes to high-Z state when C\S\ goes high for standard SPI interface.", 18 ~{CS} (in) "Chip select line for SPI serial interface", 19 DVDD (power) "Digital and op amp output stage supply voltage (+2.2V to +5.5V). Useful in multi-supply systems to prevent overvoltage/lockup condition on an ADC input (for example, a microcontroller with an ADC running on +3V and the PGA (See Datasheet)", 20 CH6 (in) "Input MUX channel 6"

## PGA117AIPW
designator U?
Zero-Drift, Programmable Gain Amplifier with MUX, -40 to 125 degC, 20-pin SOP (PW20), Green (RoHS & no Sb/Br); Manufacturer: Texas Instruments; PartNumber: PGA117AIPW; Gain Error (+/-)(Max)(%): 0.1; Gain(V/V): 1, 2, 5, 10, 20, 50, 100, 200; Input Bias Current (+/-)(Max)(nA): 5; Input Offset (+/-)(Max)(uV): 100; Input Offset Drift (+/-)(Max)(uV/Degrees Celsius): 1.2; Non-Linearity (+/-)(Max)(%): 0.0015; Number of Channels: 10; Quiescent Current (+/-)(Typ)(mA): 1.1; Settling Time to 0.01%(Typ)(us): 2.55; Slew Rate(Typ)(V/us): 3; Vs(Max)(V): 5.5; Vs(Min)(V): 2.2; DatasheetVersion: SBOS424B; PackageVersion: 4040064-5/G, 02/2011; PackageReference: PW20; PackageDescription: 20-Pin Plastic Small Outline, Body 6.5 x 4.4 mm, Pitch 0.65 mm; Supplier 1: Digi-Key; Supplier Part Number 1: 296-33536-5-ND; Supplier 2: Mouser; Supplier Part Number 2: 595-PGA117AIPW; Eco-Plan: Green (RoHS & no Sb/Br); SubFamily: Programmable Gain Amplifier; Mounting Technology: Surface Mount; Code_JEDEC: MO-153; ComponentLink1Description: Manufacturer URL; ComponentLink1URL: http://www.ti.com/; ComponentLink2Description: Datasheet; ComponentLink2URL: http://www.ti.com/general/docs/lit/getliterature.tsp?genericPartNumber=PGA117&fileType=pdf; ComponentLink3Description: Package Specification; ComponentLink3URL: http://www.ti.com.cn/cn/lit/ml/mpds362/mpds362.pdf
footprint TI-PW20_N (SOP, 20-Leads, Body 6.6x4.5mm, Pitch 0.65mm, IPC Medium Density)
footprint TI-PW20_L (SOP, 20-Leads, Body 6.6x4.5mm, Pitch 0.65mm, IPC High Density)
footprint TI-PW20_M (SOP, 20-Leads, Body 6.6x4.5mm, Pitch 0.65mm, IPC Low Density)
pins: 1 AVDD (power) "Analog supply voltage (+2.2V to +5.5V)", 2 CH5 (in) "Input MUX channel 5", 3 CH4 (in) "Input MUX channel 4", 4 CH3 (in) "Input MUX channel 3", 5 CH2 (in) "Input MUX channel 2", 6 CH1 (in) "Input MUX channel 1", 7 VCAL/CH0 (in) "Input MUX channel 0 and VCAL input. For system calibration purposes, connect this pin to a low-impedance external reference voltage to use internal calibration channels. The four internal calibration channels are connected (See Datasheet)", 8 VREF (in) "Reference input pin. Connect external reference for VOUT offset shift or to midsupply for midsupply referenced systems. VREF must be connected to a low-impedance reference capable of sourcing and sinking at least 2mA or to (See Datasheet)", 9 VOUT (hiz) "Analog voltage output. When AVDD < DVDD, VOUT is clamped to AVDD + 300mV.", 10 CH7 (in) "Input MUX channel 7", 11 CH8 (in) "Input MUX channel 8", 12 CH9 (in) "Input MUX channel 9", 13 ENABLE (in) "Hardware enable pin. Logic low puts the part into Shutdown mode (IQ < 1uA).", 14 GND (power) "Ground pin", 15 SCLK (in) "Clock input for SPI serial interface", 16 DIN (in) "Data input for SPI serial interface. DIN contains a weak, 10uA internal pull-down current source to allow for ease of daisy-chain configurations.", 17 DOUT (hiz) "Data output for SPI serial interface. DOUT goes to high-Z state when C\S\ goes high for standard SPI interface.", 18 ~{CS} (in) "Chip select line for SPI serial interface", 19 DVDD (power) "Digital and op amp output stage supply voltage (+2.2V to +5.5V). Useful in multi-supply systems to prevent overvoltage/lockup condition on an ADC input (for example, a microcontroller with an ADC running on +3V and the PGA (See Datasheet)", 20 CH6 (in) "Input MUX channel 6"

## PGA117AIPWG4
designator U?
Zero-Drift, Programmable Gain Amplifier with MUX, -40 to 125 degC, 20-pin SOP (PW20), Green (RoHS & no Sb/Br); Manufacturer: Texas Instruments; PartNumber: PGA117AIPWG4; Gain Error (+/-)(Max)(%): 0.1; Gain(V/V): 1, 2, 5, 10, 20, 50, 100, 200; Input Bias Current (+/-)(Max)(nA): 5; Input Offset (+/-)(Max)(uV): 100; Input Offset Drift (+/-)(Max)(uV/Degrees Celsius): 1.2; Non-Linearity (+/-)(Max)(%): 0.0015; Number of Channels: 10; Quiescent Current (+/-)(Typ)(mA): 1.1; Settling Time to 0.01%(Typ)(us): 2.55; Slew Rate(Typ)(V/us): 3; Vs(Max)(V): 5.5; Vs(Min)(V): 2.2; DatasheetVersion: SBOS424B; PackageVersion: 4040064-5/G, 02/2011; PackageReference: PW20; PackageDescription: 20-Pin Plastic Small Outline, Body 6.5 x 4.4 mm, Pitch 0.65 mm; Supplier 1: Digi-Key; Supplier Part Number 1: PGA117AIPWG4-ND; Supplier 2: Mouser; Supplier Part Number 2: 595-PGA117AIPWG4; Eco-Plan: Green (RoHS & no Sb/Br); SubFamily: Programmable Gain Amplifier; Mounting Technology: Surface Mount; Code_JEDEC: MO-153; ComponentLink1Description: Manufacturer URL; ComponentLink1URL: http://www.ti.com/; ComponentLink2Description: Datasheet; ComponentLink2URL: http://www.ti.com/general/docs/lit/getliterature.tsp?genericPartNumber=PGA117&fileType=pdf; ComponentLink3Description: Package Specification; ComponentLink3URL: http://www.ti.com.cn/cn/lit/ml/mpds362/mpds362.pdf
footprint TI-PW20_N (SOP, 20-Leads, Body 6.6x4.5mm, Pitch 0.65mm, IPC Medium Density)
footprint TI-PW20_L (SOP, 20-Leads, Body 6.6x4.5mm, Pitch 0.65mm, IPC High Density)
footprint TI-PW20_M (SOP, 20-Leads, Body 6.6x4.5mm, Pitch 0.65mm, IPC Low Density)
pins: 1 AVDD (power) "Analog supply voltage (+2.2V to +5.5V)", 2 CH5 (in) "Input MUX channel 5", 3 CH4 (in) "Input MUX channel 4", 4 CH3 (in) "Input MUX channel 3", 5 CH2 (in) "Input MUX channel 2", 6 CH1 (in) "Input MUX channel 1", 7 VCAL/CH0 (in) "Input MUX channel 0 and VCAL input. For system calibration purposes, connect this pin to a low-impedance external reference voltage to use internal calibration channels. The four internal calibration channels are connected (See Datasheet)", 8 VREF (in) "Reference input pin. Connect external reference for VOUT offset shift or to midsupply for midsupply referenced systems. VREF must be connected to a low-impedance reference capable of sourcing and sinking at least 2mA or to (See Datasheet)", 9 VOUT (hiz) "Analog voltage output. When AVDD < DVDD, VOUT is clamped to AVDD + 300mV.", 10 CH7 (in) "Input MUX channel 7", 11 CH8 (in) "Input MUX channel 8", 12 CH9 (in) "Input MUX channel 9", 13 ENABLE (in) "Hardware enable pin. Logic low puts the part into Shutdown mode (IQ < 1uA).", 14 GND (power) "Ground pin", 15 SCLK (in) "Clock input for SPI serial interface", 16 DIN (in) "Data input for SPI serial interface. DIN contains a weak, 10uA internal pull-down current source to allow for ease of daisy-chain configurations.", 17 DOUT (hiz) "Data output for SPI serial interface. DOUT goes to high-Z state when C\S\ goes high for standard SPI interface.", 18 ~{CS} (in) "Chip select line for SPI serial interface", 19 DVDD (power) "Digital and op amp output stage supply voltage (+2.2V to +5.5V). Useful in multi-supply systems to prevent overvoltage/lockup condition on an ADC input (for example, a microcontroller with an ADC running on +3V and the PGA (See Datasheet)", 20 CH6 (in) "Input MUX channel 6"